# EAGLE library part 71922-108LF (library FCI_By_element14_Batch_1)
LATCH HEADER, RIGHT ANGLE
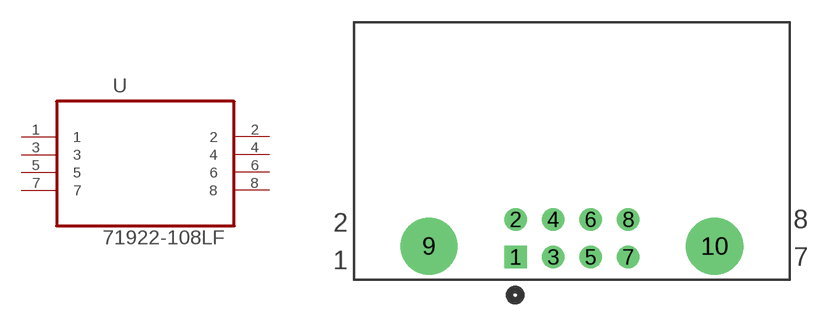
[diagram p35: symbol with the pads of FCI_71922-108LF; footprint FCI_71922-108LF]

Designator prefix U

## 71922-108LF (MPN: 71922-108LF; OC_FARNELL: -; OC_NEWARK: 62K7438; PACKAGE: CON- 8 WAYS; SUPPLIER: FCI)  [FCI_71922-108LF]
1  1  pas
2  2  pas
3  3  pas
4  4  pas
5  5  pas
6  6  pas
7  7  pas
8  8  pas

## Footprint FCI_71922-108LF (pad centres in mm)
drill 1.016 square: 1 -7.62,-2.54
drill 1.016: 2 -7.62,0; 3 -5.08,-2.54; 4 -5.08,0; 5 -2.54,-2.54; 6 -2.54,0; 7 0,-2.54; 8 0,0
drill 2.845: 9 -13.462,-1.803; 10 5.842,-1.803